# Altium footprint library PAL.PcbLib: 183 footprints (part 2 of 12)
Each footprint in its own frame and in the unit in brackets; x right, y up, seen from the top. Pads: shape width x height; smd on the part's side, far side on the other; paste and mask are expansions set on the pad; w line width, h text height; cw(c..) or ccw(c..) is an arc to the next point about the centre after c.
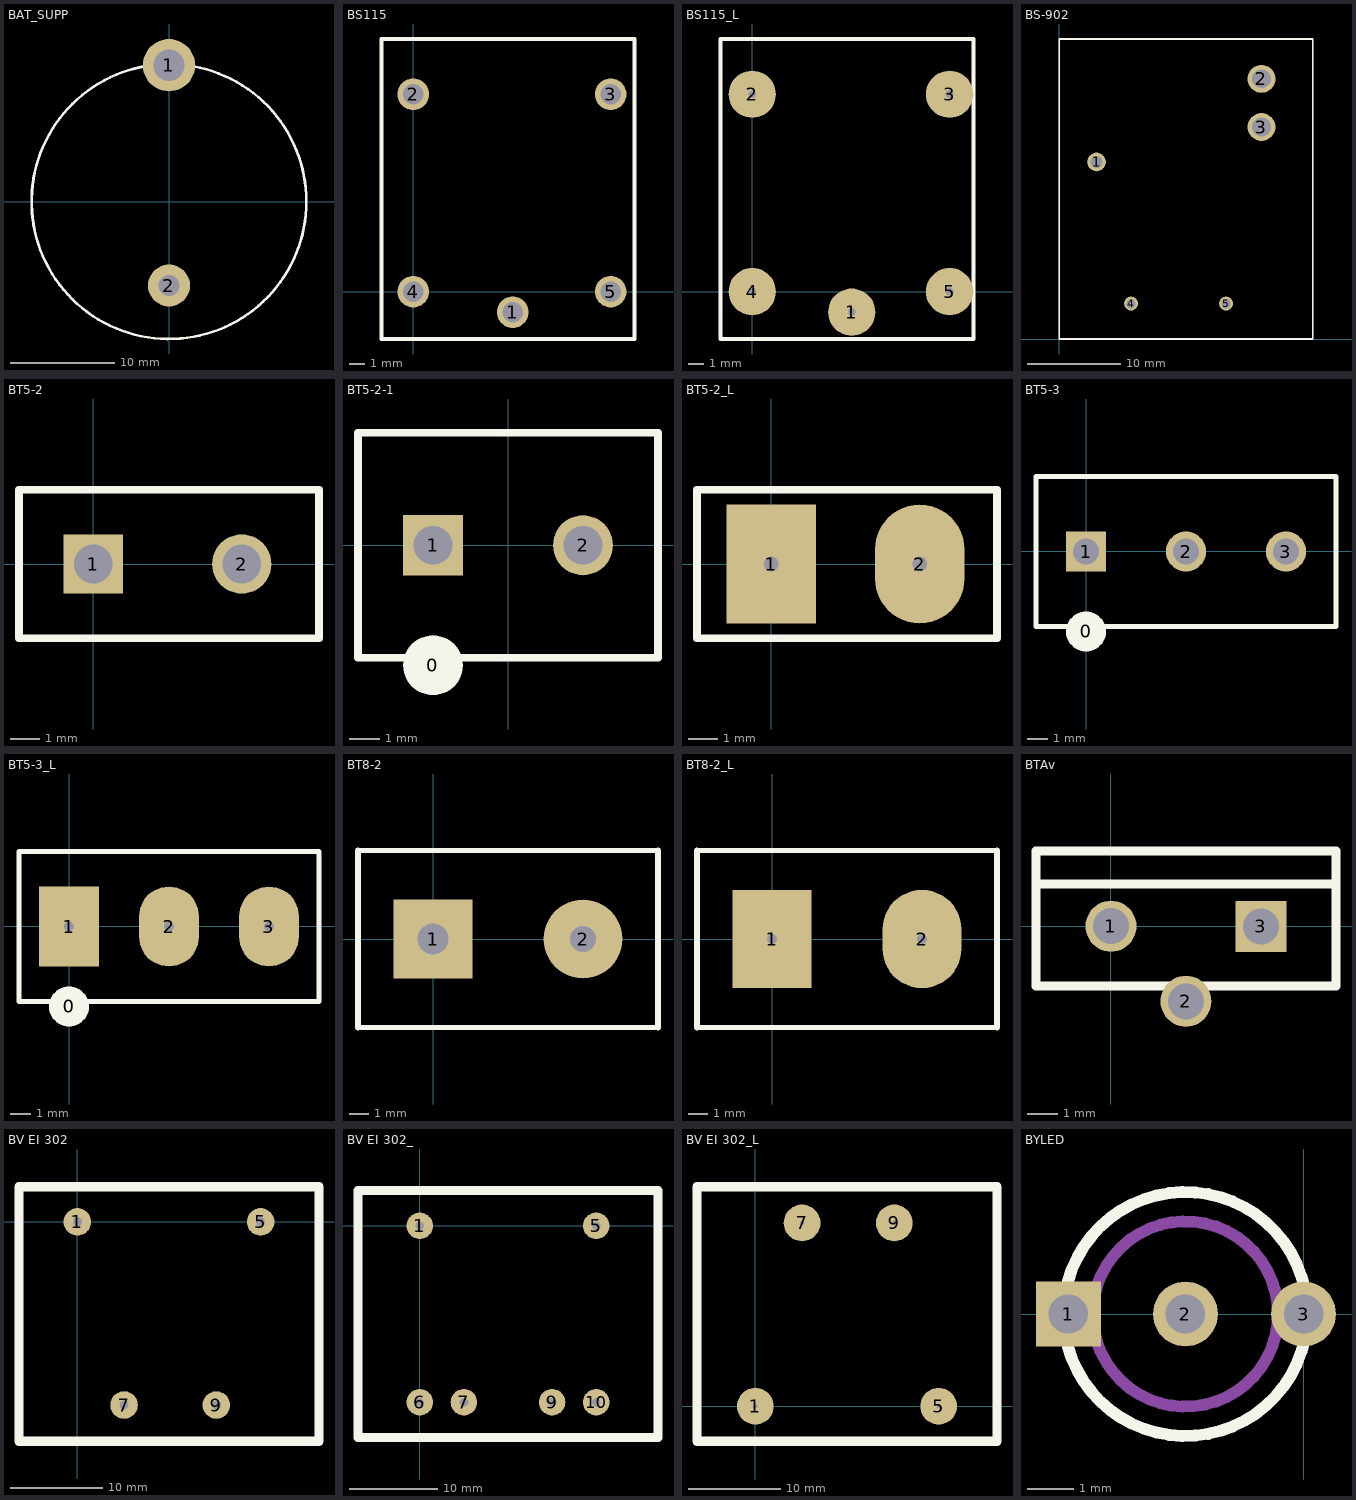
[diagram p1: the footprints below, top view; thin cyan lines are the x and y axes]

## BAT_SUPP [mm]
pads (2):
  round 5 hole 3: 1(-0.009,12.995)
  round 4 hole 2: 2(-0.009,-8.005)
Top Overlay:
  circle w0.254: c-0.009,-0.005 r13.1

## BS115 [mm]
pads (5):
  round 2 hole 1.3: 1(6.292,-1.304) 2(-0.008,12.496) 3(12.492,12.496) 4(-0.008,-0.004) 5(12.492,-0.004)
Top Overlay:
  lines w0.254: -2.008,-3.004 6.292,-3.004 13.992,-3.004 13.992,15.996 -2.008,15.996 -2.008,-3.004

## BS115_L [mm]
pads (5):
  round 3 hole 0.5: 1(6.292,-1.304) 2(-0.008,12.496) 3(12.492,12.496) 4(-0.008,-0.004) 5(12.492,-0.004)
Top Overlay:
  lines w0.254: -2.008,-3.004 6.292,-3.004 13.992,-3.004 13.992,15.996 -2.008,15.996 -2.008,-3.004

## BS-902 [mm]
pads (5):
  round 2 hole 1.3: 1(3.994,19.007)
  round 3 hole 2: 2(21.694,27.932) 3(21.694,22.757)
  round 1.5 hole 1: 4(7.694,3.807) 5(17.894,3.807)
Top Overlay:
  lines w0.2: -0.006,0.007 -0.006,32.207 27.194,32.207 27.194,0.007 -0.006,0.007

## BT5-2 [mm]
pads (2):
  rect 2x2 hole 1.3: 1(0.006,0.008)
  round 2 hole 1.3: 2(5.006,0.008)
Top Overlay:
  lines w0.254: -2.494,1.508 -2.494,2.508 7.606,2.508 7.606,-2.492 -2.494,-2.492 -2.494,2.008

## BT5-2-1 [mm]
pads (3):
  round 2 on Top Overlay: 0(-2.5,-4)
  rect 2x2 hole 1.3: 1(-2.5,0)
  round 2 hole 1.3: 2(2.5,0)
Top Overlay:
  lines w0.254: -5,-3.75 5,-3.75 5,3.75 -5,3.75 -5,-3.75

## BT5-2_L [mm]
pads (2):
  rect 3x4 hole 0.5: 1(0.006,0.008)
  oval 3x4 hole 0.5: 2(5.006,0.008)
Top Overlay:
  lines w0.254: -2.494,1.508 -2.494,2.508 7.606,2.508 7.606,-2.492 -2.494,-2.492 -2.494,2.008

## BT5-3 [mm]
pads (4):
  round 2 on Top Overlay: 0(-0.001,-4.001)
  rect 2x2 hole 1.3: 1(-0.001,-0.001)
  round 2 hole 1.3: 2(4.999,-0.001) 3(9.999,-0.001)
Top Overlay:
  lines w0.254: -2.501,1.499 -2.501,2.499 ; -2.501,-3.751 12.499,-3.751 12.499,3.749 -2.501,3.749 -2.501,-3.751

## BT5-3_L [mm]
pads (4):
  round 2 on Top Overlay: 0(-0.001,-4.001)
  rect 3x4 hole 0.5: 1(-0.001,-0.001)
  oval 3x4 hole 0.5: 2(4.999,-0.001) 3(9.999,-0.001)
Top Overlay:
  lines w0.254: -2.501,1.499 -2.501,2.499 ; -2.501,-3.751 12.499,-3.751 12.499,3.749 -2.501,3.749 -2.501,-3.751

## BT8-2 [mm]
pads (2):
  rect 4x4 hole 1.6: 1(-0.006,0.006)
  round 4 hole 1.3: 2(7.614,0.006)
Top Overlay:
  lines w0.254: -3.816,-4.494 11.424,-4.494 ; -3.816,4.506 11.424,4.506
  lines w0.3: -3.816,-4.494 -3.816,4.506 ; 11.424,-4.494 11.424,4.506

## BT8-2_L [mm]
pads (2):
  rect 4x5 hole 0.5: 1(-0.006,0.006)
  oval 4x5 hole 0.5: 2(7.614,0.006)
Top Overlay:
  lines w0.254: -3.816,-4.494 11.424,-4.494 ; -3.816,4.506 11.424,4.506
  lines w0.3: -3.816,-4.494 -3.816,4.506 ; 11.424,-4.494 11.424,4.506

## BTAv [mm]
pads (3):
  round 1.7 hole 1.2: 1(0.002,0.003) 2(2.5,-2.5)
  rect 1.7x1.7 hole 1.2: 3(5,0)
Top Overlay:
  lines w0.3: -2.498,1.403 7.502,1.403 ; -2.498,-1.997 -2.498,0.003 -2.498,2.503 7.502,2.503 7.502,-1.997 -2.498,-1.997

## BV EI 302 [mm]
pads (4):
  round 3 hole 1: 1(-0.004,-0.011) 5(19.935,-0.011) 7(5.076,-19.95) 9(15.109,-19.95)
Top Overlay:
  lines w1: -6.354,-23.887 -0.004,-23.887 26.285,-23.887 26.285,3.799 -6.354,3.799 -6.354,-23.887

## BV EI 302_ [mm]
pads (6):
  round 3 hole 1: 1(0,0) 5(20,0) 6(0,-20) 7(5,-20) 9(15,-20) 10(20,-20)
Top Overlay:
  lines w1: -7,-24 -7,4 27,4 27,-24 0,-24 -7,-24

## BV EI 302_L [mm]
pads (4):
  round 4 hole 0.5: 1(0.009,0.016) 5(19.948,0.016) 7(5.089,19.955) 9(15.122,19.955)
Top Overlay:
  lines w1: -6.341,-3.794 26.298,-3.794 26.298,23.892 0.009,23.892 -6.341,23.892 -6.341,-3.794

## BYLED [mm]
pads (3):
  rect 1.4x1.4 hole 0.85: 1(-5.077,0.007)
  round 1.4 hole 0.85: 2(-2.552,0.007) 3(-0.002,0.007)
Top Overlay:
  circle w0.254: c-2.552,0.007 r2.633
Mechanical 4:
  circle w0.254: c-2.552,0.007 r2
Mechanical 5:
  circle w0.254: c-2.552,0.007 r2